# Altium footprint library Dual-In-Line Package.PcbLib: 133 footprints (part 1 of 9)
Each footprint in its own frame and in the unit in brackets; x right, y up, seen from the top. Pads: shape width x height; smd on the part's side, far side on the other; paste and mask are expansions set on the pad; w line width, h text height; cw(c..) or ccw(c..) is an arc to the next point about the centre after c.
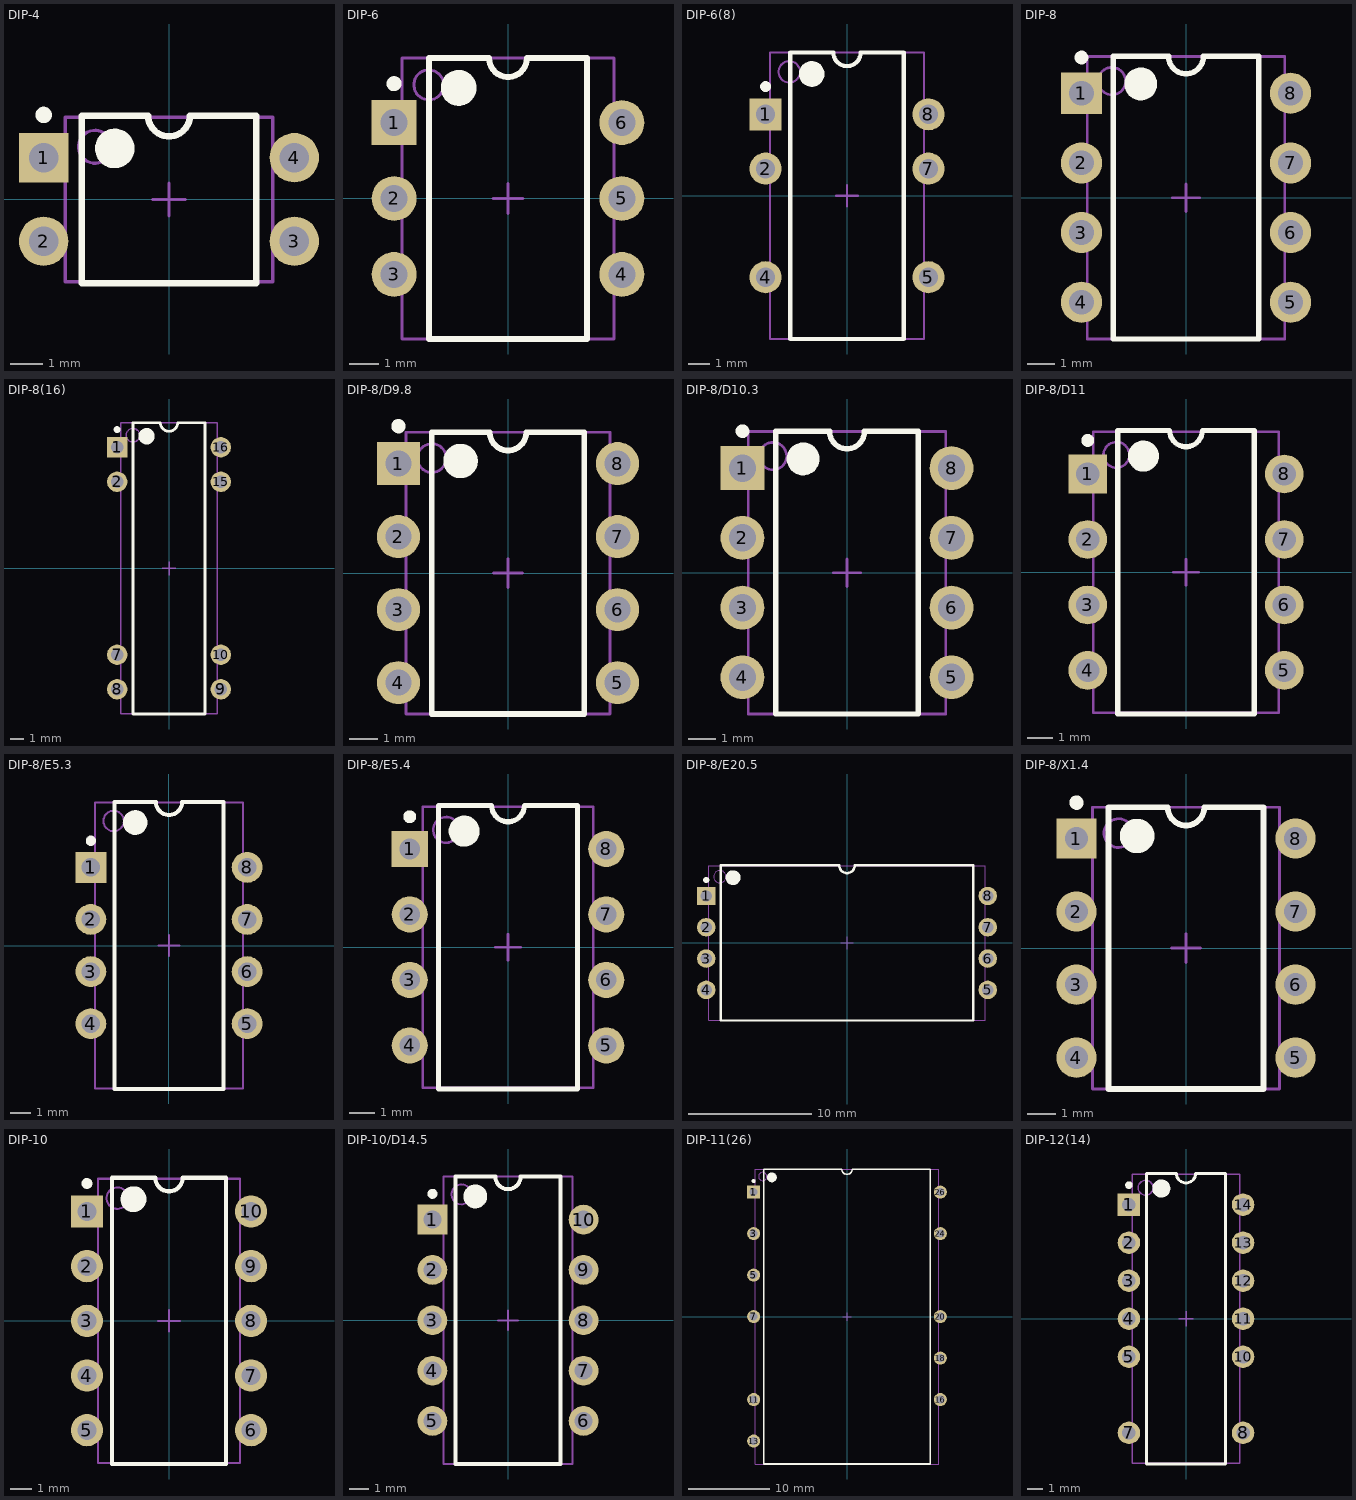
[diagram p0: the footprints below, top view; thin cyan lines are the x and y axes]

## DIP-4 [mm] "DIP, 4-Pin, Row Spacing 7.62 mm, Pitch 2.54 mm"
height 4.57
pads (4):
  rect 1.5x1.5 hole 0.9: 1(-3.81,1.27)
  round 1.5 hole 0.9: 2(-3.81,-1.27) 3(3.81,-1.27) 4(3.81,1.27)
Top Overlay:
  circle w0.6: c-1.65,1.55 r0.3
  circle w0.25: c-3.81,2.57 r0.125
  lines w0.2: -2.65,-2.55 2.65,-2.55 2.65,2.55 0.635,2.55 cw(c0,2.55) -0.635,2.55 -2.65,2.55 -2.65,-2.55
Mechanical 13:
  circle w0.1: c-2.25,1.6 r0.5
  lines w0.1: -3.15,-2.5 3.15,-2.5 3.15,2.5 -3.15,2.5 -3.15,-2.5
Mechanical 15:
  lines w0.1: -0.5,0 0.5,0 ; 0,-0.5 0,0.5
3D body: height 4.57, standoff 0, extent -3.15,-2.5 3.15,2.5

## DIP-6 [mm] "DIP, 6-Pin, Row Spacing 7.62 mm, Pitch 2.54 mm"
height 5.46
pads (6):
  rect 1.5x1.5 hole 0.9: 1(-3.81,2.54)
  round 1.5 hole 0.9: 2(-3.81,0) 3(-3.81,-2.54) 4(3.81,-2.54) 5(3.81,0) 6(3.81,2.54)
Top Overlay:
  circle w0.6: c-1.65,3.7 r0.3
  circle w0.25: c-3.81,3.84 r0.125
  lines w0.2: -2.65,-4.7 2.65,-4.7 2.65,4.7 0.635,4.7 cw(c0,4.7) -0.635,4.7 -2.65,4.7 -2.65,-4.7
Mechanical 13:
  circle w0.1: c-2.65,3.8 r0.5
  lines w0.1: -3.55,-4.7 3.55,-4.7 3.55,4.7 -3.55,4.7 -3.55,-4.7
Mechanical 15:
  lines w0.1: -0.5,0 0.5,0 ; 0,-0.5 0,0.5
3D body: height 5.46, standoff 0, extent -3.55,-4.7 3.55,4.7

## DIP-6(8) [mm] "DIP, 8-Pin (2 Absent), Row Spacing 7.62 mm, Pitch 2.54 mm"
height 4.2
pads (6):
  rect 1.5x1.5 hole 0.9: 1(-3.81,3.81)
  round 1.5 hole 0.9: 2(-3.81,1.27) 4(-3.81,-3.81) 5(3.81,-3.81) 7(3.81,1.27) 8(3.81,3.81)
Top Overlay:
  circle w0.25: c-3.81,5.11 r0.125
  circle w0.6: c-1.65,5.7 r0.3
  lines w0.2: -2.65,-6.7 -2.65,6.7 -0.635,6.7 ccw(c0,6.7) 0.635,6.7 2.65,6.7 2.65,-6.7 -2.65,-6.7
Mechanical 13:
  circle w0.1: c-2.7,5.8 r0.5
  lines w0.1: -3.6,-6.7 -3.6,6.7 3.6,6.7 3.6,-6.7 -3.6,-6.7
Mechanical 15:
  lines w0.1: -0.5,0 0.5,0 ; 0,-0.5 0,0.5
3D body: height 4.2, standoff 0, extent -3.6,-6.7 3.6,6.7

## DIP-8 [mm] "DIP, 8-Pin, Row Spacing 7.62 mm, Pitch 2.54 mm"
height 5.33
pads (8):
  rect 1.5x1.5 hole 0.9: 1(-3.81,3.81)
  round 1.5 hole 0.9: 2(-3.81,1.27) 3(-3.81,-1.27) 4(-3.81,-3.81) 5(3.81,-3.81) 6(3.81,-1.27) 7(3.81,1.27) 8(3.81,3.81)
Top Overlay:
  circle w0.25: c-3.81,5.11 r0.125
  circle w0.6: c-1.65,4.15 r0.3
  lines w0.2: -2.65,-5.15 -2.65,5.15 -0.635,5.15 ccw(c0,5.15) 0.635,5.15 2.65,5.15 2.65,-5.15 -2.65,-5.15
Mechanical 13:
  circle w0.1: c-2.7,4.25 r0.5
  lines w0.1: -3.6,-5.15 -3.6,5.15 3.6,5.15 3.6,-5.15 -3.6,-5.15
Mechanical 15:
  lines w0.1: -0.5,0 0.5,0 ; 0,-0.5 0,0.5
3D body: height 5.33, standoff 0, extent -3.6,-5.15 3.6,5.15

## DIP-8(16) [mm] "DIP, 16-Pin (8 Absent), Row Spacing 7.62 mm, Pitch 2.54 mm"
height 5.33
pads (8):
  rect 1.5x1.5 hole 0.9: 1(-3.81,8.89)
  round 1.5 hole 0.9: 2(-3.81,6.35) 7(-3.81,-6.35) 8(-3.81,-8.89) 9(3.81,-8.89) 10(3.81,-6.35) 15(3.81,6.35) 16(3.81,8.89)
Top Overlay:
  circle w0.25: c-3.81,10.19 r0.125
  circle w0.6: c-1.65,9.7 r0.3
  lines w0.2: -2.65,-10.7 -2.65,10.7 -0.635,10.7 ccw(c0,10.7) 0.635,10.7 2.65,10.7 2.65,-10.7 -2.65,-10.7
Mechanical 13:
  circle w0.1: c-2.65,9.775 r0.5
  lines w0.1: -3.55,-10.675 -3.55,10.675 3.55,10.675 3.55,-10.675 -3.55,-10.675
Mechanical 15:
  lines w0.1: -0.5,0 0.5,0 ; 0,-0.5 0,0.5
3D body: height 5.33, standoff 0, extent -3.55,-10.675 3.55,10.675

## DIP-8/D9.8 [mm] "8-Pin Plastic Dual In-Line Package (PDIP)"
height 4.32
pads (8):
  rect 1.5x1.5 hole 0.9: 1(-3.81,3.81)
  round 1.5 hole 0.9: 2(-3.81,1.27) 3(-3.81,-1.27) 4(-3.81,-3.81) 5(3.81,-3.81) 6(3.81,-1.27) 7(3.81,1.27) 8(3.81,3.81)
Top Overlay:
  circle w0.6: c-1.65,3.9 r0.3
  circle w0.25: c-3.81,5.11 r0.125
  lines w0.2: -2.65,-4.9 2.65,-4.9 2.65,4.9 0.635,4.9 cw(c0,4.9) -0.635,4.9 -2.65,4.9 -2.65,-4.9
Mechanical 13:
  circle w0.1: c-2.65,4 r0.5
  lines w0.1: -3.55,-4.9 3.55,-4.9 3.55,4.9 -3.55,4.9 -3.55,-4.9
Mechanical 15:
  lines w0.1: -0.5,0 0.5,0 ; 0,-0.5 0,0.5
3D body: height 4.32, standoff 0, extent -3.55,-4.9 3.55,4.9

## DIP-8/D10.3 [mm] "DIP, 8-Pin, Row Spacing 7.62 mm, Pitch 2.54 mm"
height 5.08
pads (8):
  rect 1.6x1.6 hole 1: 1(-3.81,3.81)
  round 1.6 hole 1: 2(-3.81,1.27) 3(-3.81,-1.27) 4(-3.81,-3.81) 5(3.81,-3.81) 6(3.81,-1.27) 7(3.81,1.27) 8(3.81,3.81)
Top Overlay:
  circle w0.6: c-1.6,4.15 r0.3
  circle w0.25: c-3.81,5.16 r0.125
  lines w0.2: -2.6,-5.15 2.6,-5.15 2.6,5.15 0.635,5.15 cw(c0,5.15) -0.635,5.15 -2.6,5.15 -2.6,-5.15
Mechanical 13:
  circle w0.1: c-2.7,4.25 r0.5
  lines w0.1: -3.6,-5.15 3.6,-5.15 3.6,5.15 -3.6,5.15 -3.6,-5.15
Mechanical 15:
  lines w0.1: -0.5,0 0.5,0 ; 0,-0.5 0,0.5
3D body: height 5.08, standoff 0, extent -3.6,-5.15 3.6,5.15

## DIP-8/D11 [mm] "DIP, 8-Pin, Row Spacing 7.62 mm, Pitch 2.54 mm"
height 5.33
pads (8):
  rect 1.5x1.5 hole 0.9: 1(-3.81,3.81)
  round 1.5 hole 0.9: 2(-3.81,1.27) 3(-3.81,-1.27) 4(-3.81,-3.81) 5(3.81,-3.81) 6(3.81,-1.27) 7(3.81,1.27) 8(3.81,3.81)
Top Overlay:
  circle w0.6: c-1.65,4.5 r0.3
  circle w0.25: c-3.81,5.11 r0.125
  lines w0.2: -2.65,-5.5 2.65,-5.5 2.65,5.5 0.635,5.5 cw(c0,5.5) -0.635,5.5 -2.65,5.5 -2.65,-5.5
Mechanical 13:
  circle w0.1: c-2.7,4.55 r0.5
  lines w0.1: -3.6,-5.45 3.6,-5.45 3.6,5.45 -3.6,5.45 -3.6,-5.45
Mechanical 15:
  lines w0.1: -0.5,0 0.5,0 ; 0,-0.5 0,0.5
3D body: height 5.33, standoff 0, extent -3.6,-5.45 3.6,5.45

## DIP-8/E5.3 [mm] "DIP, 8-Pin, Row Spacing 7.62 mm, Pitch 2.54 mm"
height 4.45
pads (8):
  rect 1.5x1.5 hole 0.9: 1(-3.81,3.81)
  round 1.5 hole 0.9: 2(-3.81,1.27) 3(-3.81,-1.27) 4(-3.81,-3.81) 5(3.81,-3.81) 6(3.81,-1.27) 7(3.81,1.27) 8(3.81,3.81)
Top Overlay:
  circle w0.6: c-1.65,6 r0.3
  circle w0.25: c-3.81,5.11 r0.125
  lines w0.2: -2.65,-7 2.65,-7 2.65,7 0.635,7 cw(c0,7) -0.635,7 -2.65,7 -2.65,-7
Mechanical 13:
  circle w0.1: c-2.7,6.075 r0.5
  lines w0.1: -3.6,-6.975 3.6,-6.975 3.6,6.975 -3.6,6.975 -3.6,-6.975
Mechanical 15:
  lines w0.1: -0.5,0 0.5,0 ; 0,-0.5 0,0.5
3D body: height 4.45, standoff 0, extent -3.6,-6.975 3.6,6.975

## DIP-8/E5.4 [mm] "DIP, 8-Pin, Row Spacing 7.62 mm, Pitch 2.54 mm"
height 5.33
pads (8):
  rect 1.4x1.4 hole 0.8: 1(-3.81,3.81)
  round 1.4 hole 0.8: 2(-3.81,1.27) 3(-3.81,-1.27) 4(-3.81,-3.81) 5(3.81,-3.81) 6(3.81,-1.27) 7(3.81,1.27) 8(3.81,3.81)
Top Overlay:
  circle w0.6: c-1.7,4.5 r0.3
  circle w0.25: c-3.81,5.06 r0.125
  lines w0.2: -2.7,-5.5 2.7,-5.5 2.7,5.5 0.635,5.5 cw(c0,5.5) -0.635,5.5 -2.7,5.5 -2.7,-5.5
Mechanical 13:
  circle w0.1: c-2.4,4.55 r0.5
  lines w0.1: -3.3,-5.45 3.3,-5.45 3.3,5.45 -3.3,5.45 -3.3,-5.45
Mechanical 15:
  lines w0.1: -0.5,0 0.5,0 ; 0,-0.5 0,0.5
3D body: height 5.33, standoff 0, extent -3.3,-5.45 3.3,5.45

## DIP-8/E20.5 [mm] "DIP, 8-Pin, Row Spacing 22.86 mm, Pitch 2.54 mm"
height 5.24
pads (8):
  rect 1.5x1.5 hole 0.9: 1(-11.43,3.81)
  round 1.5 hole 0.9: 2(-11.43,1.27) 3(-11.43,-1.27) 4(-11.43,-3.81) 5(11.43,-3.81) 6(11.43,-1.27) 7(11.43,1.27) 8(11.43,3.81)
Top Overlay:
  circle w0.6: c-9.25,5.3 r0.3
  circle w0.25: c-11.43,5.11 r0.125
  lines w0.2: -10.25,-6.3 10.25,-6.3 10.25,6.3 0.635,6.3 cw(c0,6.3) -0.635,6.3 -10.25,6.3 -10.25,-6.3
Mechanical 13:
  circle w0.1: c-10.325,5.375 r0.5
  lines w0.1: -11.225,-6.275 11.225,-6.275 11.225,6.275 -11.225,6.275 -11.225,-6.275
Mechanical 15:
  lines w0.1: -0.5,0 0.5,0 ; 0,-0.5 0,0.5
3D body: height 5.24, standoff 0, extent -11.225,-6.275 11.225,6.275

## DIP-8/X1.4 [mm] "DIP, 8-Pin, Row Spacing 7.62 mm, Pitch 2.54 mm"
height 4
pads (8):
  rect 1.4x1.4 hole 0.8: 1(-3.81,3.81)
  round 1.4 hole 0.8: 2(-3.81,1.27) 3(-3.81,-1.27) 4(-3.81,-3.81) 5(3.81,-3.81) 6(3.81,-1.27) 7(3.81,1.27) 8(3.81,3.81)
Top Overlay:
  circle w0.6: c-1.7,3.9 r0.3
  circle w0.25: c-3.81,5.06 r0.125
  lines w0.2: -2.7,-4.9 2.7,-4.9 2.7,4.9 0.635,4.9 cw(c0,4.9) -0.635,4.9 -2.7,4.9 -2.7,-4.9
Mechanical 13:
  circle w0.1: c-2.35,4 r0.5
  lines w0.1: -3.25,-4.9 3.25,-4.9 3.25,4.9 -3.25,4.9 -3.25,-4.9
Mechanical 15:
  lines w0.1: -0.5,0 0.5,0 ; 0,-0.5 0,0.5
3D body: height 4, standoff 0, extent -3.25,-4.9 3.25,4.9

## DIP-10 [mm] "DIP, 10-Pin, Row Spacing 7.62 mm, Pitch 2.54 mm"
height 4.42
pads (10):
  rect 1.5x1.5 hole 0.9: 1(-3.81,5.08)
  round 1.5 hole 0.9: 2(-3.81,2.54) 3(-3.81,0) 4(-3.81,-2.54) 5(-3.81,-5.08) 6(3.81,-5.08) 7(3.81,-2.54) 8(3.81,0) 9(3.81,2.54) 10(3.81,5.08)
Top Overlay:
  circle w0.6: c-1.65,5.65 r0.3
  circle w0.25: c-3.81,6.38 r0.125
  lines w0.2: -2.65,-6.65 2.65,-6.65 2.65,6.65 0.635,6.65 cw(c0,6.65) -0.635,6.65 -2.65,6.65 -2.65,-6.65
Mechanical 13:
  circle w0.1: c-2.4,5.7 r0.5
  lines w0.1: -3.3,-6.6 3.3,-6.6 3.3,6.6 -3.3,6.6 -3.3,-6.6
Mechanical 15:
  lines w0.1: -0.5,0 0.5,0 ; 0,-0.5 0,0.5
3D body: height 4.42, standoff 0, extent -3.3,-6.6 3.3,6.6

## DIP-10/D14.5 [mm] "DIP, 10-Pin, Row Spacing 7.62 mm, Pitch 2.54 mm"
height 5.08
pads (10):
  rect 1.5x1.5 hole 0.9: 1(-3.81,5.08)
  round 1.5 hole 0.9: 2(-3.81,2.54) 3(-3.81,0) 4(-3.81,-2.54) 5(-3.81,-5.08) 6(3.81,-5.08) 7(3.81,-2.54) 8(3.81,0) 9(3.81,2.54) 10(3.81,5.08)
Top Overlay:
  circle w0.6: c-1.65,6.25 r0.3
  circle w0.25: c-3.81,6.38 r0.125
  lines w0.2: -2.65,-7.25 2.65,-7.25 2.65,7.25 0.635,7.25 cw(c0,7.25) -0.635,7.25 -2.65,7.25 -2.65,-7.25
Mechanical 13:
  circle w0.1: c-2.35,6.35 r0.5
  lines w0.1: -3.25,-7.25 3.25,-7.25 3.25,7.25 -3.25,7.25 -3.25,-7.25
Mechanical 15:
  lines w0.1: -0.5,0 0.5,0 ; 0,-0.5 0,0.5
3D body: height 5.08, standoff 0, extent -3.25,-7.25 3.25,7.25

## DIP-11(26) [mm] "DIP, 26-Pin (15 Absent), Row Spacing 22.86 mm, Pitch 2.54 mm"
height 6.9
pads (11):
  rect 1.6x1.6 hole 1: 1(-11.43,15.24)
  round 1.6 hole 1: 3(-11.43,10.16) 5(-11.43,5.08) 7(-11.43,0) 11(-11.43,-10.16) 13(-11.43,-15.24) 16(11.43,-10.16) 18(11.43,-5.08) 20(11.43,0) 24(11.43,10.16) 26(11.43,15.24)
Top Overlay:
  circle w0.6: c-9.2,17.05 r0.3
  circle w0.25: c-11.43,16.59 r0.125
  lines w0.2: -10.2,-18.05 10.2,-18.05 10.2,18.05 0.635,18.05 cw(c0,18.05) -0.635,18.05 -10.2,18.05 -10.2,-18.05
Mechanical 13:
  circle w0.1: c-10.325,17.15 r0.5
  lines w0.1: -11.225,-18.05 11.225,-18.05 11.225,18.05 -11.225,18.05 -11.225,-18.05
Mechanical 15:
  lines w0.1: -0.5,0 0.5,0 ; 0,-0.5 0,0.5
3D body: height 6.9, standoff 0, extent -11.225,-18.05 11.225,18.05

## DIP-12(14) [mm] "DIP, 14-Pin (2 Absent), Row Spacing 7.62 mm, Pitch 2.54 mm"
height 4.2
pads (12):
  rect 1.5x1.5 hole 0.9: 1(-3.81,7.62)
  round 1.5 hole 0.9: 2(-3.81,5.08) 3(-3.81,2.54) 4(-3.81,0) 5(-3.81,-2.54) 7(-3.81,-7.62) 8(3.81,-7.62) 10(3.81,-2.54) 11(3.81,0) 12(3.81,2.54) 13(3.81,5.08) 14(3.81,7.62)
Top Overlay:
  circle w0.6: c-1.65,8.7 r0.3
  circle w0.25: c-3.81,8.92 r0.125
  lines w0.2: -2.65,-9.7 2.65,-9.7 2.65,9.7 0.635,9.7 cw(c0,9.7) -0.635,9.7 -2.65,9.7 -2.65,-9.7
Mechanical 13:
  circle w0.1: c-2.7,8.75 r0.5
  lines w0.1: -3.6,-9.65 3.6,-9.65 3.6,9.65 -3.6,9.65 -3.6,-9.65
Mechanical 15:
  lines w0.1: -0.5,0 0.5,0 ; 0,-0.5 0,0.5
3D body: height 4.2, standoff 0, extent -3.6,-9.65 3.6,9.65